# EAGLE library part MP3414AGJ-Z (library MP3414AGJ-Z)
3A, 1MHz, 22Î¼A, Iq, 1.8V to 5.5VOUT Synchronous Step-Up Converter with Output Disconnect
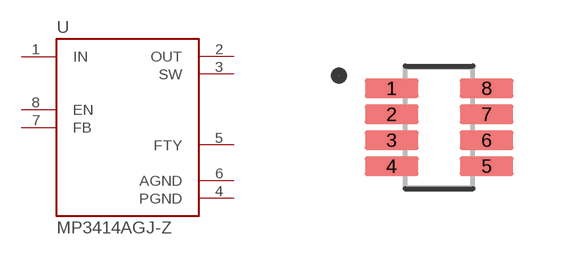
[diagram p0: symbol with the pads of SOT65P280X100-8N; footprint SOT65P280X100-8N]

Designator prefix U

## MP3414AGJ-Z (Description: Boost Switching Regulator IC Positive Adjustable 2V 1 Output 3A SOT-23-8; Digi-Key_Part_Number: 1589-1637-1-ND; MF: Monolithic Power; MP: MP3414AGJ-Z; Package: TSOT-23 MPS; Purchase-URL: https://pricing.snapeda.com/search/part/MP3414AGJ-Z/?ref=eda)  [SOT65P280X100-8N]
1  IN  in
2  OUT  out
3  SW  out
4  PGND  pwr
5  FTY  pas
6  AGND  pwr
7  FB  in
8  EN  in

## Footprint SOT65P280X100-8N (pad centres in mm)
smd 1.34 x 0.49: 1 -1.19,0.975; 2 -1.19,0.325; 3 -1.19,-0.325; 4 -1.19,-0.975; 5 1.19,-0.975; 6 1.19,-0.325; 7 1.19,0.325; 8 1.19,0.975